# EAGLE library part 0569564-3 (library con-amp2)
MODULAR JACK 8 POS., RIGHT ANGLE, LOW PROFILE WITH LEDS Source: http://ecommas.tycoelectronics.com/.. 569564_K.pdf
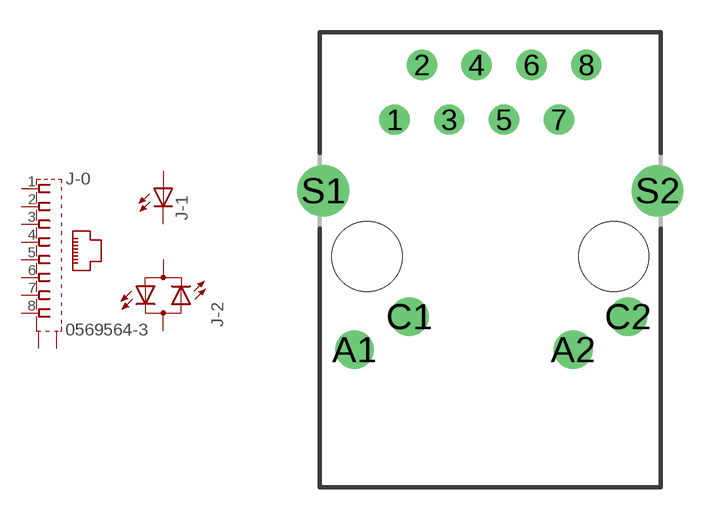
[diagram p133: symbol with the pads of 0569564; footprint 0569564]

Designator prefix J; gates -0=JACK8SH -1=LED -2=LED2

## 0569564-3  [0569564]
1  -0:1  pas
2  -0:2  pas
3  -0:3  pas
4  -0:4  pas
5  -0:5  pas
6  -0:6  pas
7  -0:7  pas
8  -0:8  pas
A1  -1:A  pas
A2  -2:A  pas
C1  -1:C  pas
C2  -2:C  pas
S1  -0:S1  pas
S2  -0:S2  pas

## Footprint 0569564 (pad centres in mm)
Modular Jack 8 Position right angle, low profile, panel ground with LEDS Source: http://ecommas.tycoelectronics.com/.. 569564_K.pdf
drill 0.9 round: 1 -4.445,6.35; 2 -3.175,8.89; 3 -1.905,6.35; 4 -0.635,8.89; 5 0.635,6.35; 6 1.905,8.89; 7 3.175,6.35; 8 4.445,8.89
drill 1.2 round: A1 -6.295,-4.32; A2 3.835,-4.32; C1 -3.755,-2.79; C2 6.375,-2.79
drill 1.6 round: S1 -7.745,3.05; S2 7.745,3.05
hole 3.25 at -5.715,0
hole 3.25 at 5.715,0